# Altium schematic symbol library nnts_brad.SchLib: 40 symbols (part 2 of 2)
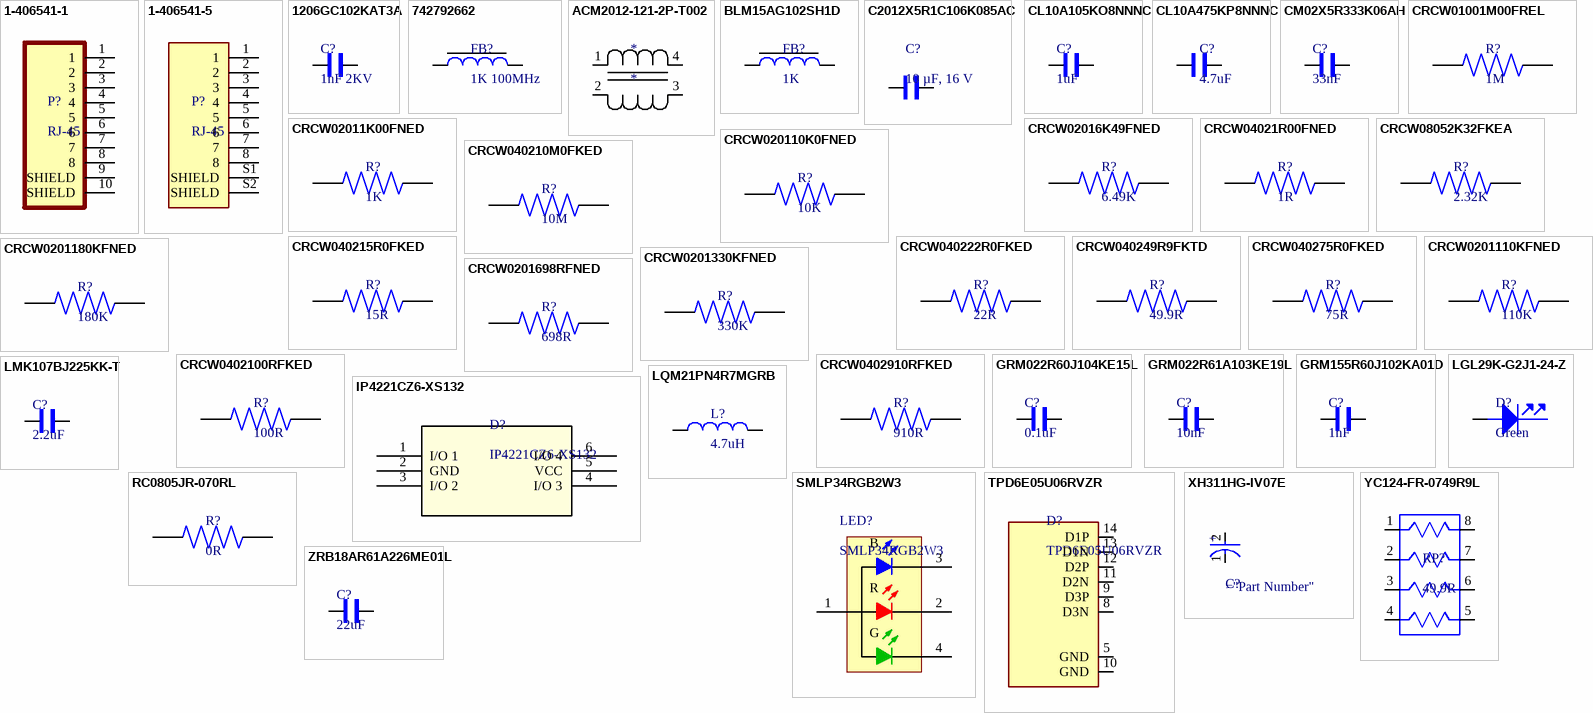
[diagram p1: symbols 1-406541-1 to ZRB18AR61A226ME01L]

## CRCW0201110KFNED
designator R?, comment 110K
RES SMD 110K OHM 1% 1/20W 0201; Manufacturer: Vishay; Manufacturer Part Number: CRCW0201110KFNED; Resistance: 110kR; Power Rating: 50mW; Voltage Rating: 30V; Temperature Coefficient: 200ppm/°C; Supplier 1: Digi-Key; RoHS: Yes; Category: Chip SMD Resistors; Stock 1: 6456; Pricing 1: 1=0.10000, 10=0.05700, 100=0.02300, 1000=0.01034, 2500=0.00897, 5000=0.00741 (USD); Case/Package: 0201; Case Code (Metric): 0603; Case Code (Imperial): 0201; Contact Plating: Tin; Min Operating Temperature: -55°C; Max Operating Temperature: 155°C; Package Quantity: 10000; Tolerance: 1%; Packaging: Tape and Reel; Resistor Type: Thick Film; Number of Terminations: 2; Max Power Dissipation: 50mW; Voltage Rating (DC): 30V; Length: 0.024inch; Width: 0.012inch; Height: 0.011inch; Radiation Hardening: No; REACH SVHC: Unknown; Lead Free: Lead Free; ComponentLink1URL: https://datasheet.ciiva.com/8977/crcw0201e3-8977608.pdf?src-supplier=Avnet; ComponentLink1Description: https://datasheet.ciiva.com/8977/crcw0201e3-8977608.pdf?src-supplier=Avnet; ComponentLink2URL: https://datasheet.ciiva.com/22692/1719906-22692712.pdf?src-supplier=Element14; ComponentLink2Description: https://datasheet.ciiva.com/22692/1719906-22692712.pdf?src-supplier=Element14; ComponentLink3URL: https://datasheet.ciiva.com/2577/crcw0201e3-2577313.pdf?src-supplier=Digi-Key; ComponentLink3Description: https://datasheet.ciiva.com/2577/crcw0201e3-2577313.pdf?src-supplier=Digi-Key; ComponentLink4URL: https://datasheet.ciiva.com/22665/1700795-22665706.pdf?src-supplier=Element14; ComponentLink4Description: https://datasheet.ciiva.com/22665/1700795-22665706.pdf?src-supplier=Element14; Supplier Part Number 1: 541-CRCW0201110KFNEDCT-ND
footprint R0603 Vishay
pins: 1, 2

## CRCW0201180KFNED
designator R?, comment 180K
VISHAY - CRCW0201180KFNED - SMD Chip Resistor, 0201 [0603 Metric], 180 kohm, CRCW e3 Series, 30 V, Thick Film, 50 mW; Resistance: 180kR; Power Rating: 50mW; Tolerance: 1%; Voltage Rating: 30V; Temperature Coefficient: 200ppm/°C; Supplier 1: Digi-Key; Manufacturer: Vishay; Manufacturer Part Number: CRCW0201180KFNED; RoHS: Yes; Category: Chip SMD Resistors; Stock 1: 10120; Pricing 1: 1=0.10000, 10=0.05700, 100=0.02300, 1000=0.01034, 2500=0.00897, 5000=0.00741 (USD); Case/Package: 0201; Case Code (Metric): 0603; Case Code (Imperial): 0201; Contact Plating: Tin; Min Operating Temperature: -55°C; Max Operating Temperature: 155°C; Packaging: Tape and Reel; Resistor Type: Thick Film; Voltage Rating (DC): 30V; Length: 600um; Width: 300um; Height: 230um; Radiation Hardening: No; REACH SVHC: Unknown; Lead Free: Lead Free; ComponentLink1URL: https://datasheet.ciiva.com/22665/1700795-22665798.pdf?src-supplier=Element14; ComponentLink1Description: https://datasheet.ciiva.com/22665/1700795-22665798.pdf?src-supplier=Element14; ComponentLink2URL: https://datasheet.ciiva.com/22692/1719906-22692745.pdf?src-supplier=Element14; ComponentLink2Description: https://datasheet.ciiva.com/22692/1719906-22692745.pdf?src-supplier=Element14; ComponentLink3URL: https://datasheet.ciiva.com/7714/1719906-7714127.pdf?src-supplier=Element14; ComponentLink3Description: https://datasheet.ciiva.com/7714/1719906-7714127.pdf?src-supplier=Element14; Supplier Part Number 1: 541-CRCW0201180KFNEDCT-ND
footprint R0603 Vishay
pins: 1, 2

## CRCW0201330KFNED
designator R?, comment 330K
VISHAY   CRCW0201330KFNED   Surface Mount Chip Resistor, Thick Film, AEC-Q200 CRCW Series, 330 kohm, 50 mW,  1%, 30 V; Resistance: 330kR; Power Rating: 50mW; Voltage Rating: 30V; Temperature Coefficient: 200ppm/°C; Supplier 1: Digi-Key; Manufacturer: Vishay; Manufacturer Part Number: CRCW0201330KFNED; RoHS: Yes; Category: Chip SMD Resistors; Stock 1: 7255; Pricing 1: 1=0.10000, 10=0.05700, 100=0.02300, 1000=0.01034, 2500=0.00897, 5000=0.00741 (USD); Case/Package: 0201; Case Code (Metric): 0603; Case Code (Imperial): 0201; Contact Plating: Tin; Min Operating Temperature: -55°C; Max Operating Temperature: 155°C; Packaging: Tape and Reel; Tolerance: 1%; Package Quantity: 10000; Resistor Type: Thick Film; Number of Terminations: 2; Max Power Dissipation: 50mW; Voltage Rating (DC): 30V; Length: 0.024inch; Width: 0.012inch; Height: 0.011inch; Radiation Hardening: No; REACH SVHC: Unknown; Lead Free: Lead Free; ComponentLink1URL: https://datasheet.ciiva.com/22708/1719906-22708398.pdf?src-supplier=Element14; ComponentLink1Description: https://datasheet.ciiva.com/22708/1719906-22708398.pdf?src-supplier=Element14; Supplier Part Number 1: 541-CRCW0201330KFNEDCT-ND
footprint R0603 Vishay
pins: 1, 2

## CRCW0201698RFNED
designator R?, comment 698R
RES SMD 698 OHM 1% 1/20W 0201; Manufacturer: Vishay; Manufacturer Part Number: CRCW0201698RFNED; Power Rating: 50mW; Voltage Rating: 30V; Temperature Coefficient: 200ppm/°C; Supplier 1: Digi-Key; RoHS: Yes; Category: Chip SMD Resistors; Stock 1: 10000; Pricing 1: 1=0.10000, 10=0.05700, 100=0.02300, 1000=0.01034, 2500=0.00897, 5000=0.00741 (USD); Case/Package: 0201; Case Code (Metric): 0603; Case Code (Imperial): 0201; Contact Plating: Tin; Min Operating Temperature: -55°C; Max Operating Temperature: 155°C; Packaging: Tape and Reel; Resistance: 698R; Tolerance: 1%; Package Quantity: 10000; Resistor Type: Thick Film; Number of Terminations: 2; Max Power Dissipation: 50mW; Voltage Rating (DC): 30V; Length: 0.024inch; Width: 0.012inch; Height: 0.011inch; Radiation Hardening: No; REACH SVHC: Unknown; Lead Free: Lead Free; ComponentLink1URL: https://datasheet.ciiva.com/2577/crcw0201e3-2577171.pdf?src-supplier=Digi-Key; ComponentLink1Description: https://datasheet.ciiva.com/2577/crcw0201e3-2577171.pdf?src-supplier=Digi-Key; ComponentLink2URL: https://datasheet.ciiva.com/8922/crcw0201e3-8922646.pdf?src-supplier=Avnet; ComponentLink2Description: https://datasheet.ciiva.com/8922/crcw0201e3-8922646.pdf?src-supplier=Avnet; ComponentLink3URL: https://datasheet.ciiva.com/7672/1719906-7672440.pdf?src-supplier=Element14; ComponentLink3Description: https://datasheet.ciiva.com/7672/1719906-7672440.pdf?src-supplier=Element14; ComponentLink4URL: https://datasheet.ciiva.com/7672/1719906-7672441.pdf?src-supplier=Element14; ComponentLink4Description: https://datasheet.ciiva.com/7672/1719906-7672441.pdf?src-supplier=Element14; ComponentLink5URL: https://datasheet.ciiva.com/22674/1700795-22674828.pdf?src-supplier=Element14; ComponentLink5Description: https://datasheet.ciiva.com/22674/1700795-22674828.pdf?src-supplier=Element14; Supplier Part Number 1: 541-CRCW0201698RFNEDCT-ND
footprint R0603 Vishay
pins: 1, 2

## CRCW0402100RFKED
designator R?, comment 100R
RES SMD 100 OHM 1% 1/16W 0402; Manufacturer: Vishay Dale; Manufacturer Part Number: CRCW0402100RFKED; Power Rating: 63mW; Temperature Coefficient: 100ppm/°C; Voltage Rating: 50V; Supplier 1: Digi-Key; RoHS: Yes; Category: Chip SMD Resistors; Stock 1: 292788; Pricing 1: 1=0.10000, 10=0.03300, 100=0.01330, 1000=0.00596, 2500=0.00518, 5000=0.00428 (USD); Mount: Surface Mount; Case/Package: 0402; Contact Plating: Tin; Weight: 2.3E-05oz; Case Code (Metric): 1005; Case Code (Imperial): 0402; Min Operating Temperature: -55°C; Max Operating Temperature: 155°C; Resistance: 100R; Tolerance: 1%; Resistor Type: Thick Film; Termination: SMD/SMT; Packaging: Tape and Reel; Package Quantity: 10; Number of Terminations: 2; Max Power Dissipation: 63mW; Voltage Rating (DC): 50V; Working Voltage: 50V; Features: Automotive AEC-Q200; Length: 1mm; Width: 0.02inch; Height: 0.35mm; Depth: 0.5mm; Radiation Hardening: No; Lead Free: Lead Free; REACH SVHC: Unknown; Military Standard: Not; ComponentLink1URL: https://datasheet.ciiva.com/11809/0900766b80d98824-11809081.pdf?src-supplier=RSComponents; ComponentLink1Description: https://datasheet.ciiva.com/11809/0900766b80d98824-11809081.pdf?src-supplier=RSComponents; ComponentLink2URL: https://datasheet.ciiva.com/2463/dcrcwe3-2463094.pdf?src-supplier=Digi-Key; ComponentLink2Description: https://datasheet.ciiva.com/2463/dcrcwe3-2463094.pdf?src-supplier=Digi-Key; ComponentLink3URL: https://datasheet.ciiva.com/16199/dcrcwe3-16199158.pdf?src-supplier=Future+Electronics; ComponentLink3Description: https://datasheet.ciiva.com/16199/dcrcwe3-16199158.pdf?src-supplier=Future+Electronics; ComponentLink4URL: https://datasheet.ciiva.com/2463/dcrcwe3-2463095.pdf?src-supplier=Digi-Key; ComponentLink4Description: https://datasheet.ciiva.com/2463/dcrcwe3-2463095.pdf?src-supplier=Digi-Key; ComponentLink5URL: https://datasheet.ciiva.com/2463/dcrcwe3-2463096.pdf?src-supplier=Digi-Key; ComponentLink5Description: https://datasheet.ciiva.com/2463/dcrcwe3-2463096.pdf?src-supplier=Digi-Key; ComponentLink6URL: https://datasheet.ciiva.com/5552/dcrcwe3-109170-5552168.pdf?src-supplier=Mouser; ComponentLink6Description: https://datasheet.ciiva.com/5552/dcrcwe3-109170-5552168.pdf?src-supplier=Mouser; ComponentLink7URL: https://datasheet.ciiva.com/8083/dcrcwe3-8083977.pdf?src-supplier=Avnet; ComponentLink7Description: https://datasheet.ciiva.com/8083/dcrcwe3-8083977.pdf?src-supplier=Avnet; ComponentLink8URL: https://datasheet.ciiva.com/16722/70201119-16722524.pdf?src-supplier=Allied+Electronics; ComponentLink8Description: https://datasheet.ciiva.com/16722/70201119-16722524.pdf?src-supplier=Allied+Electronics; ComponentLink9URL: https://datasheet.ciiva.com/22673/1697337-22673118.pdf?src-supplier=Element14; ComponentLink9Description: https://datasheet.ciiva.com/22673/1697337-22673118.pdf?src-supplier=Element14; ComponentLink10URL: https://datasheet.ciiva.com/22673/1697337-22673117.pdf?src-supplier=Element14; ComponentLink10Description: https://datasheet.ciiva.com/22673/1697337-22673117.pdf?src-supplier=Element14; ComponentLink11URL: https://datasheet.ciiva.com/3255/dcrcwe3-3255951.pdf?src-supplier=Avnet; ComponentLink11Description: https://datasheet.ciiva.com/3255/dcrcwe3-3255951.pdf?src-supplier=Avnet; Supplier Part Number 1: 541-100LCT-ND
footprint R0402 Vishay
pins: 1, 2

## CRCW0402910RFKED
designator R?, comment 910R
Res Thick Film 0402 910 Ohm 1% 0.063W(1/16W) ±100ppm/C Pad SMD Automotive T/R; Manufacturer: Vishay; Manufacturer Part Number: CRCW0402910RFKED; Temperature Coefficient: 100ppm/°C; Power Rating: 63mW; Voltage Rating: 50V; Supplier 1: Digi-Key; RoHS: Yes; Category: Chip SMD Resistors; Stock 1: 32719; Pricing 1: 1=0.10000, 10=0.03300, 100=0.01330, 1000=0.00596, 2500=0.00518, 5000=0.00428 (USD); Case/Package: 0402; Contact Plating: Tin; Weight: 2.3E-05oz; Case Code (Imperial): 0402; Case Code (Metric): 1005; Min Operating Temperature: -55°C; Max Operating Temperature: 155°C; Resistance: 910R; Tolerance: 1%; Resistor Type: Thick Film; Packaging: Tape and Reel; Package Quantity: 10; Termination: SMD/SMT; Number of Terminations: 2; Max Power Dissipation: 63mW; Features: Automotive AEC-Q200; Voltage Rating (DC): 50V; Length: 1mm; Width: 0.5mm; Height: 0.35mm; Depth: 0.5mm; Radiation Hardening: No; Lead Free: Lead Free; REACH SVHC: Unknown; Military Standard: Not; ComponentLink1URL: https://datasheet.ciiva.com/11818/0900766b80d98824-11818156.pdf?src-supplier=RSComponents; ComponentLink1Description: https://datasheet.ciiva.com/11818/0900766b80d98824-11818156.pdf?src-supplier=RSComponents; ComponentLink2URL: https://datasheet.ciiva.com/5545/dcrcwe3-109170-5545657.pdf?src-supplier=Mouser; ComponentLink2Description: https://datasheet.ciiva.com/5545/dcrcwe3-109170-5545657.pdf?src-supplier=Mouser; ComponentLink3URL: https://datasheet.ciiva.com/22674/1847332-22674841.pdf?src-supplier=Element14; ComponentLink3Description: https://datasheet.ciiva.com/22674/1847332-22674841.pdf?src-supplier=Element14; ComponentLink4URL: https://datasheet.ciiva.com/2463/dcrcwe3-2463999.pdf?src-supplier=Digi-Key; ComponentLink4Description: https://datasheet.ciiva.com/2463/dcrcwe3-2463999.pdf?src-supplier=Digi-Key; ComponentLink5URL: https://datasheet.ciiva.com/7672/1697337-7672517.pdf?src-supplier=Element14; ComponentLink5Description: https://datasheet.ciiva.com/7672/1697337-7672517.pdf?src-supplier=Element14; ComponentLink6URL: https://datasheet.ciiva.com/16778/70201119-16778533.pdf?src-supplier=Allied+Electronics; ComponentLink6Description: https://datasheet.ciiva.com/16778/70201119-16778533.pdf?src-supplier=Allied+Electronics; ComponentLink7URL: https://datasheet.ciiva.com/16426/dcrcwe3-16426299.pdf?src-supplier=Future+Electronics; ComponentLink7Description: https://datasheet.ciiva.com/16426/dcrcwe3-16426299.pdf?src-supplier=Future+Electronics; ComponentLink8URL: https://datasheet.ciiva.com/22706/1697337-22706347.pdf?src-supplier=Element14; ComponentLink8Description: https://datasheet.ciiva.com/22706/1697337-22706347.pdf?src-supplier=Element14; ComponentLink9URL: https://datasheet.ciiva.com/2463/dcrcwe3-2463997.pdf?src-supplier=Digi-Key; ComponentLink9Description: https://datasheet.ciiva.com/2463/dcrcwe3-2463997.pdf?src-supplier=Digi-Key; ComponentLink10URL: https://datasheet.ciiva.com/2463/dcrcwe3-2463998.pdf?src-supplier=Digi-Key; ComponentLink10Description: https://datasheet.ciiva.com/2463/dcrcwe3-2463998.pdf?src-supplier=Digi-Key; ComponentLink11URL: https://datasheet.ciiva.com/7672/1697337-7672518.pdf?src-supplier=Element14; ComponentLink11Description: https://datasheet.ciiva.com/7672/1697337-7672518.pdf?src-supplier=Element14; Supplier Part Number 1: 541-910LCT-ND
footprint R0402 Vishay
pins: 1, 2

## GRM022R60J104KE15L
designator C?, comment 0.1uF
CAP CER 0.1UF 6.3V X5R 01005; Manufacturer: Murata; Manufacturer Part Number: GRM022R60J104KE15L; Capacitance: 100nF; Tolerance: 10%; Supplier 1: Digi-Key; RoHS: No; Category: Ceramic Capacitors; Stock 1: 633064; Pricing 1: 1=0.13000, 10=0.09000, 50=0.05080, 100=0.04210, 500=0.02952, 1000=0.02444, 2500=0.02275, 5000=0.02081 (USD); Mount: Surface Mount; Case Code (Imperial): 1005; Case Code (Metric): 0402; Min Operating Temperature: -55°C; Max Operating Temperature: 85°C; Packaging: Cut Tape; Voltage Rating: 6.3V; ComponentLink1URL: http://search.murata.co.jp/Ceramy/image/img/A01X/G101/ENG/GRM022R60J104KE15-01.pdf?src-supplier=Digi-Key; ComponentLink1Description: http://search.murata.co.jp/Ceramy/image/img/A01X/G101/ENG/GRM022R60J104KE15-01.pdf?src-supplier=Digi-Key; Supplier Part Number 1: 490-16598-1-ND
footprint C0402
pins: 1, 2

## GRM022R61A103KE19L
designator C?, comment 10nF
CAP CER 10000PF 10V X5R 01005; Manufacturer: Murata; Manufacturer Part Number: GRM022R61A103KE19L; Tolerance: 10%; Supplier 1: Digi-Key; RoHS: Yes; Category: Ceramic Capacitors; Stock 1: 601814; Pricing 1: 1=0.10000, 10=0.05200, 50=0.02840, 100=0.02320, 500=0.01656, 1000=0.01301, 2500=0.01182, 5000=0.01088 (USD); Mount: Surface Mount; Case/Package: 0402; Case Code (Metric): 0402; Case Code (Imperial): 1005; Min Operating Temperature: -55°C; Max Operating Temperature: 85°C; Voltage Rating: 10V; Voltage Rating (DC): 10V; Dielectric: X5R; Capacitance: 10nF; Packaging: Tape and Reel; Length: 0.016inch; Width: 0.008inch; Height: 0.2mm; Thickness: 0.009inch; Depth: 0.2mm; Radiation Hardening: No; ComponentLink1URL: https://datasheet.ciiva.com/11619/product-11619917.pdf?src-supplier=Avnet; ComponentLink1Description: https://datasheet.ciiva.com/11619/product-11619917.pdf?src-supplier=Avnet; Supplier Part Number 1: 490-13319-1-ND
footprint C0402
pins: 1, 2

## GRM155R60J102KA01D
designator C?, comment 1nF
0402 1 nF 6.3 V ±10% Tolerance X5R SMT Multilayer Ceramic Capacitor; Manufacturer: Murata; Manufacturer Part Number: GRM155R60J102KA01D; Voltage Rating: 6.3V; Supplier 1: Digi-Key; RoHS: Yes; Category: Ceramic Capacitors; Stock 1: 20431; Pricing 1: 1=0.10000, 10=0.02800, 50=0.01520, 100=0.01240, 500=0.00886, 1000=0.00696, 2500=0.00632, 5000=0.00582 (USD); Mount: Surface Mount; Case/Package: 0402; Case Code (Metric): 1005; Case Code (Imperial): 0402; Min Operating Temperature: -55°C; Max Operating Temperature: 85°C; Package Quantity: 10000; Capacitance: 1nF; Tolerance: 10%; Packaging: Tape and Reel; Voltage Rating (DC): 6.3V; Dielectric: X5R; Termination: SMD/SMT; Voltage: 6.3V; Length: 1mm; Width: 0.02inch; Height: 0.5mm; Thickness: 0.022inch; Depth: 0.5mm; Radiation Hardening: No; Lead Free: Lead Free; ComponentLink1URL: https://datasheet.ciiva.com/6263/product-6263681.pdf?src-supplier=Digi-Key; ComponentLink1Description: https://datasheet.ciiva.com/6263/product-6263681.pdf?src-supplier=Digi-Key; ComponentLink2URL: https://datasheet.ciiva.com/6263/partnumbering-e-01-6263685.pdf?src-supplier=Digi-Key; ComponentLink2Description: https://datasheet.ciiva.com/6263/partnumbering-e-01-6263685.pdf?src-supplier=Digi-Key; ComponentLink3URL: https://datasheet.ciiva.com/6263/partnumbering-e-01-6263677.pdf?src-supplier=Digi-Key; ComponentLink3Description: https://datasheet.ciiva.com/6263/partnumbering-e-01-6263677.pdf?src-supplier=Digi-Key; Supplier Part Number 1: 490-6285-1-ND
footprint C0402
pins: 1, 2

## IP4221CZ6-XS132
designator D?
TVS DIODE 5.5VWM SOT891; Manufacturer: NXP Semiconductors; Number of Bidirectional Channels: 4; Reverse Standoff Voltage: 5.5V; Min Breakdown Voltage: 6V; Power Line Protection: Yes; Breakdown Voltage: 9V; Leakage Current: 100nA; Direction: Unidirectional; Capacitance: 1.2pF; Supplier 1: Digi-Key; Manufacturer Part Number: IP4221CZ6-XS132; RoHS: Yes; Category: ESD and Circuit Protection ICs; Mount: Surface Mount; Case/Package: DFN; Number of Pins: 6; Min Operating Temperature: -40°C; Max Operating Temperature: 85°C; Number of Channels: 4; Termination: SMD/SMT; Packaging: Tape and Reel; Package Quantity: 1; Length: 1.05mm; Depth: 1.05mm; Radiation Hardening: No; Lead Free: Lead Free; ComponentLink1URL: https://datasheet.ciiva.com/337/ip4221cz6-xs-337188.pdf?src-supplier=Digi-Key; ComponentLink1Description: https://datasheet.ciiva.com/337/ip4221cz6-xs-337188.pdf?src-supplier=Digi-Key; ComponentLink2URL: https://datasheet.ciiva.com/337/ip4221cz6-xs-337189.pdf?src-supplier=Digi-Key; ComponentLink2Description: https://datasheet.ciiva.com/337/ip4221cz6-xs-337189.pdf?src-supplier=Digi-Key; ComponentLink3URL: https://datasheet.ciiva.com/337/ip4221cz6-xs-337190.pdf?src-supplier=Digi-Key; ComponentLink3Description: https://datasheet.ciiva.com/337/ip4221cz6-xs-337190.pdf?src-supplier=Digi-Key; Supplier Part Number 1: 568-6341-2-ND
footprint SOT886_NEX-M
pins: 1 I/O 1, 2 GND, 3 I/O 2, 4 I/O 3, 5 VCC, 6 I/O 4

## LGL29K-G2J1-24-Z
designator D?, comment Green
LED Uni-Color Green 572nm 2-Pin Chip 0603(1608Metric) T/R; Manufacturer: Osram Opto; Manufacturer Part Number: LGL29K-G2J1-24-Z; Lens Color: White; Forward Current: 20mA; Forward Voltage: 2.2V; Luminous Intensity: 5.6mcd; Viewing Angle: 160°; Number of LEDs: 1; Lens Style: Flat,Diffused,Colorless,Rectangular; Lens Transparency: Diffused; Reverse Voltage: 12V; Test Current: 2mA; Dominant Wavelength: 570nm; Luminous Flux: 0.012lm; Lens Size: 0.8mm; Supplier 1: Digi-Key; RoHS: Yes; Category: Uncategorized; Stock 1: 112400; Pricing 1: 1=0.42000, 10=0.30400, 100=0.19830, 500=0.14250, 1000=0.11153, 2500=0.10224 (USD); Mount: Surface Mount; Case/Package: 0603; Number of Pins: 2; Case Code (Imperial): 0603; Case Code (Metric): 1608; Color: Green; Min Operating Temperature: -40°C; Max Operating Temperature: 100°C; Illumination Color: Green; Packaging: Tape and Reel; Package Quantity: 5000; Number of Elements: 1; Length: 1.3mm; Height: 0.65mm; Width: 0.8mm; Depth: 0.8mm; Radiation Hardening: No; ComponentLink1URL: https://datasheet.ciiva.com/4689/g-l29k-39844-4689584.pdf?src-supplier=Mouser; ComponentLink1Description: https://datasheet.ciiva.com/4689/g-l29k-39844-4689584.pdf?src-supplier=Mouser; ComponentLink2URL: https://datasheet.ciiva.com/15198/getdatasheetpartid-571127-15198411.pdf?src-supplier=Verical; ComponentLink2Description: https://datasheet.ciiva.com/15198/getdatasheetpartid-571127-15198411.pdf?src-supplier=Verical; ComponentLink3URL: https://datasheet.ciiva.com/2112/00077107-0-2112886.pdf?src-supplier=Digi-Key; ComponentLink3Description: https://datasheet.ciiva.com/2112/00077107-0-2112886.pdf?src-supplier=Digi-Key; ComponentLink4URL: https://datasheet.ciiva.com/2112/00077107-0-2112887.pdf?src-supplier=Digi-Key; ComponentLink4Description: https://datasheet.ciiva.com/2112/00077107-0-2112887.pdf?src-supplier=Digi-Key; ComponentLink5URL: https://datasheet.ciiva.com/2112/00077107-0-2112888.pdf?src-supplier=Digi-Key; ComponentLink5Description: https://datasheet.ciiva.com/2112/00077107-0-2112888.pdf?src-supplier=Digi-Key; Supplier Part Number 1: 475-2709-1-ND
footprint LED_0603
pins: 1 Anode

## LMK107BJ225KK-T
designator C?, comment 2.2uF
Cap Ceramic 2.2uF 10V X5R 10% Pad SMD 0603 85C T/R; Manufacturer: Taiyo Yuden; Manufacturer Part Number: LMK107BJ225KK-T; Supplier 1: Digi-Key; RoHS: No; Category: Ceramic Capacitors; Stock 1: 4228; Pricing 1: 1=0.17000, 10=0.11900, 50=0.06760, 100=0.05600, 500=0.03926, 1000=0.03250 (USD); ComponentLink1URL: http://www.farnell.com/datasheets/2801359.pdf?src-supplier=Newark; ComponentLink1Description: http://www.farnell.com/datasheets/2801359.pdf?src-supplier=Newark; Supplier Part Number 1: 587-6290-1-ND
footprint C0603
pins: 1, 2

## LQM21PN4R7MGRB
designator L?, comment 4.7uH
Inductor with Inductance: 4.7uH Tol. +/-20%, Package: 0805 (2012); MP: LQM21PN4R7MGRB; MF: Murata; Availability: Bad; SnapEDA_Link: https://www.snapeda.com/parts/LQM21PN4R7MGRB/Murata/view-part/4470527/?ref=snap; Value: *; Price: None; Package: 2012 Murata; Check_prices: https://www.snapeda.com/parts/LQM21PN4R7MGRB/Murata/view-part/4470527/?ref=eda
footprint L0805
pins: 1, 2

## RC0805JR-070RL
designator R?, comment 0R
Surface Mount Thick Film Resistor, RC Series, 125 mW, - 5%, 150 V, 0805 [2012 Metric]; Manufacturer: Yageo; Manufacturer Part Number: RC0805JR-070RL; Resistance: 0mR; Power Rating: 125mW; Voltage Rating: 150V; Temperature Coefficient: 200ppm/°C; Supplier 1: Digi-Key; RoHS: Yes; Category: Chip SMD Resistors; Stock 1: 7454053; Pricing 1: 1=0.10000, 10=0.03500, 25=0.02480, 50=0.01900, 100=0.01400, 250=0.01072, 500=0.00856, 1000=0.00631 (USD); Case/Package: 0805; Number of Pins: 2; Contact Plating: Tin,Matte; Case Code (Imperial): 0805; Case Code (Metric): 2012; Min Operating Temperature: -55°C; Max Operating Temperature: 155°C; Composition: Thick Film; Tolerance: 5%; Packaging: Tape and Reel; Voltage Rating (DC): 150V; Termination: SMD/SMT; Military Standard: Not; Length: 2mm; Height: 0.5mm; Width: 1.25mm; Depth: 1.25mm; Radiation Hardening: No; REACH SVHC: Unknown; Lead Free: Lead Free; ComponentLink1URL: https://datasheet.ciiva.com/7941/1738694-7941861.pdf?src-supplier=Element14; ComponentLink1Description: https://datasheet.ciiva.com/7941/1738694-7941861.pdf?src-supplier=Element14; ComponentLink2URL: https://datasheet.ciiva.com/11819/0900766b8106beab-11819430.pdf?src-supplier=RSComponents; ComponentLink2Description: https://datasheet.ciiva.com/11819/0900766b8106beab-11819430.pdf?src-supplier=RSComponents; ComponentLink3URL: https://datasheet.ciiva.com/7941/1738694-7941862.pdf?src-supplier=Element14; ComponentLink3Description: https://datasheet.ciiva.com/7941/1738694-7941862.pdf?src-supplier=Element14; ComponentLink4URL: https://datasheet.ciiva.com/7941/1738694-7941863.pdf?src-supplier=Element14; ComponentLink4Description: https://datasheet.ciiva.com/7941/1738694-7941863.pdf?src-supplier=Element14; ComponentLink5URL: https://datasheet.ciiva.com/15190/getdatasheetpartid-330685-15190028.pdf?src-supplier=Verical; ComponentLink5Description: https://datasheet.ciiva.com/15190/getdatasheetpartid-330685-15190028.pdf?src-supplier=Verical; Supplier Part Number 1: 311-0.0ARCT-ND
footprint R0805 Yageo
pins: 1, 2

## SMLP34RGB2W3
designator LED?
PICOLED-RGB LED, 5 mA, -40 to 85 degC, 4-Pin 1 x 1 x 0.25 mm SMD, RoHS, Tape and Reel; Manufacturer: ROHM Semiconductor; VR(RGB): 5 V; VF(Blue): 3.2 V Typ.; VF(Green): 3.3 V Typ.; IF(RGB): 5 mA; IR(RGB): 10 uA Max.; VF(Red): 2.2 V Typ.; ComponentLink1Description: Manufacturer URL; ComponentLink2Description: Datasheet; PartNumber: SMLP34RGB2W3; DatasheetVersion: Rev. G; Mounting Technology: Surface Mount; ComponentLink1URL: http://www.rohm.com/; Packing: Tape and Reel; RoHS: TRUE; Temperature Range: -40 to 85 degC; PackageReference: SMLP34; PackageDescription: 4-Pin SMD, Body 1 x 1 mm, Pitch 0.85 mm; ComponentLink2URL: http://rohmfs.rohm.com/en/products/databook/datasheet/opto/led/chip_multi/smlp34.pdf
footprint ROHM-SMLP34-4_V
pins: 1 A, 2 R, 3 B, 4 G

## TPD6E05U06RVZR
designator D?
TVS DIODE 5.5V 14V 14USON (ESD Protection for PHY); Manufacturer: Texas Instruments; Peak Pulse Current: 2.5A; Number of Bidirectional Channels: 6; Min Breakdown Voltage: 6V; Peak Pulse Power: 40W; Power Line Protection: Yes; Polarity: Bidirectional; Leakage Current: 10nA; Interface: LVDS,USB,Ethernet,HDMI,PCIe,SATA; Direction: Unidirectional; Supplier 1: Digi-Key; Manufacturer Part Number: TPD6E05U06RVZR; RoHS: Yes; Category: ESD and Circuit Protection ICs; Stock 1: 12287; Pricing 1: 1=0.80000, 10=0.66000, 100=0.47930, 500=0.38340, 1000=0.30885 (USD); Mount: Surface Mount; Number of Pins: 14; Min Operating Temperature: -40°C; Max Operating Temperature: 125°C; Packaging: Tape and Reel; Package Quantity: 3000; Reverse Standoff Voltage: 5.5V; Clamping Voltage: 14V; Number of Channels: 6; Breakdown Voltage: 6V; Termination: SMD/SMT; Max Power Dissipation: 40W; Working Voltage: 5.5V; Length: 3.6mm; Depth: 1.45mm; Radiation Hardening: No; Lead Free: Lead Free; ComponentLink1URL: https://datasheet.ciiva.com/29883/tpd6e05u06-29883847.pdf?src-supplier=Avnet; ComponentLink1Description: https://datasheet.ciiva.com/29883/tpd6e05u06-29883847.pdf?src-supplier=Avnet; ComponentLink2URL: https://datasheet.ciiva.com/26918/getdatasheetpartid-747210-26918045.pdf?src-supplier=Verical; ComponentLink2Description: https://datasheet.ciiva.com/26918/getdatasheetpartid-747210-26918045.pdf?src-supplier=Verical; Supplier Part Number 1: 296-39349-1-ND
footprint SON50P135X350X55-14N
pins: 5 GND (power), 8 D3N (io), 9 D3P (io), 10 GND (power), 11 D2N (io), 12 D2P (io), 13 D1N (io), 14 D1P (io)

## XH311HG-IV07E
designator C?, comment 20mF 3.3V  (value not drawn)
3.3V Coin Cap
footprint Seiko_XH311HG-IV07E_0
pins: 1 C, 2 A
text: +

## YC124-FR-0749R9L
designator RP?, comment 49.9R
Res Thick Film Array 49.9 Ohm 1% 200ppm/C ISOL Molded 8-Pin 0804(4 X 0402) Convex SMD Paper T/R; Manufacturer: Yageo; Manufacturer Part Number: YC124-FR-0749R9L; Number of Terminals/Pins: 8; Temperature Coefficient: 200ppm/°C; Number of Resistors: 4; Circuit Type: Isolated; Power Per Element: 62.5mW; Working Voltage: 50V; Supplier 1: Digi-Key; RoHS: Yes; Category: Resistor Arrays; Stock 1: 76594; Pricing 1: 1=0.35000, 10=0.29700, 25=0.21560, 50=0.15640, 100=0.11590, 250=0.08896, 500=0.07010, 1000=0.04853, 5000=0.04044 (USD); Mount: Surface Mount; Case/Package: 0402; Number of Pins: 8; Min Operating Temperature: -55°C; Max Operating Temperature: 155°C; Resistance: 49.9R; Termination: Convex; Power Dissipation: 62.5mW; Number of Elements: 4; Tolerance: 1%; Package Quantity: 1; Packaging: Tape and Reel; Number of Circuits: 4; Length: 0.079inch; Width: 0.039inch; Height: 0.022inch; Terminal Pitch: 0.5mm; Depth: 1mm; Radiation Hardening: No; Military Standard: Not; Lead Free: Lead Free; ComponentLink1URL: https://datasheet.ciiva.com/2689/pyu-yc-tc124-51-rohs-l-3-2689456.pdf?src-supplier=Digi-Key; ComponentLink1Description: https://datasheet.ciiva.com/2689/pyu-yc-tc124-51-rohs-l-3-2689456.pdf?src-supplier=Digi-Key; ComponentLink2URL: https://datasheet.ciiva.com/28381/pyu-yc-tc124-51-rohs-l-2-28381383.pdf?src-supplier=Avnet+Europe; ComponentLink2Description: https://datasheet.ciiva.com/28381/pyu-yc-tc124-51-rohs-l-2-28381383.pdf?src-supplier=Avnet+Europe; ComponentLink3URL: https://datasheet.ciiva.com/16961/pyu-yc-tc124-51-rohs-l-2-16961496.pdf?src-supplier=Avnet+Europe; ComponentLink3Description: https://datasheet.ciiva.com/16961/pyu-yc-tc124-51-rohs-l-2-16961496.pdf?src-supplier=Avnet+Europe; ComponentLink4URL: https://datasheet.ciiva.com/17470/pyu-yc-tc124-51-rohs-l-3-17470984.pdf?src-supplier=Future+Electronics; ComponentLink4Description: https://datasheet.ciiva.com/17470/pyu-yc-tc124-51-rohs-l-3-17470984.pdf?src-supplier=Future+Electronics; ComponentLink5URL: https://datasheet.ciiva.com/2689/pyu-yc-tc124-51-rohs-l-3-2689454.pdf?src-supplier=Digi-Key; ComponentLink5Description: https://datasheet.ciiva.com/2689/pyu-yc-tc124-51-rohs-l-3-2689454.pdf?src-supplier=Digi-Key; ComponentLink6URL: https://datasheet.ciiva.com/2689/pyu-yc-tc124-51-rohs-l-3-2689455.pdf?src-supplier=Digi-Key; ComponentLink6Description: https://datasheet.ciiva.com/2689/pyu-yc-tc124-51-rohs-l-3-2689455.pdf?src-supplier=Digi-Key; ComponentLink7URL: https://datasheet.ciiva.com/8311/pyu-yc-tc124-51-rohs-l-2-8311759.pdf?src-supplier=Avnet; ComponentLink7Description: https://datasheet.ciiva.com/8311/pyu-yc-tc124-51-rohs-l-2-8311759.pdf?src-supplier=Avnet; Supplier Part Number 1: YC124F-49.9CT-ND
footprint RESCAXS50P200X100X55-8N
pins: 1, 2, 3, 4, 5, 6, 7, 8

## ZRB18AR61A226ME01L
designator C?, comment 22uF
0603 22 uF 10 V ±20% Tolerance X5R Surface Mount Multilayer Ceramic Capacitor; Manufacturer: Murata; Manufacturer Part Number: ZRB18AR61A226ME01L; Voltage Rating: 10V; Supplier 1: Mouser; RoHS: No; Category: Ceramic Capacitors; Stock 1: 179696; Pricing 1: 1=0.44000, 10=0.30400, 100=0.18300, 500=0.13700, 1000=0.11600, 3000=0.09500 (USD); Mount: Surface Mount; Case/Package: 0603; Min Operating Temperature: -55°C; Max Operating Temperature: 85°C; Packaging: Tape and Reel; Capacitance: 22uF; Tolerance: 20%; ComponentLink1URL: http://search.murata.co.jp/Ceramy/image/img/A01X/G101/ENG/ZRB18AR61A226ME01-02.pdf?src-supplier=Digi-Key; ComponentLink1Description: http://search.murata.co.jp/Ceramy/image/img/A01X/G101/ENG/ZRB18AR61A226ME01-02.pdf?src-supplier=Digi-Key; Supplier Part Number 1: 81-ZRB18AR61A226ME1L
footprint C0603
pins: 1, 2